# Altium footprint library PcbLib.PcbLib: 10 footprints
Each footprint in its own frame and in the unit in brackets; x right, y up, seen from the top. Pads: shape width x height; smd on the part's side, far side on the other; paste and mask are expansions set on the pad; w line width, h text height; cw(c..) or ccw(c..) is an arc to the next point about the centre after c.
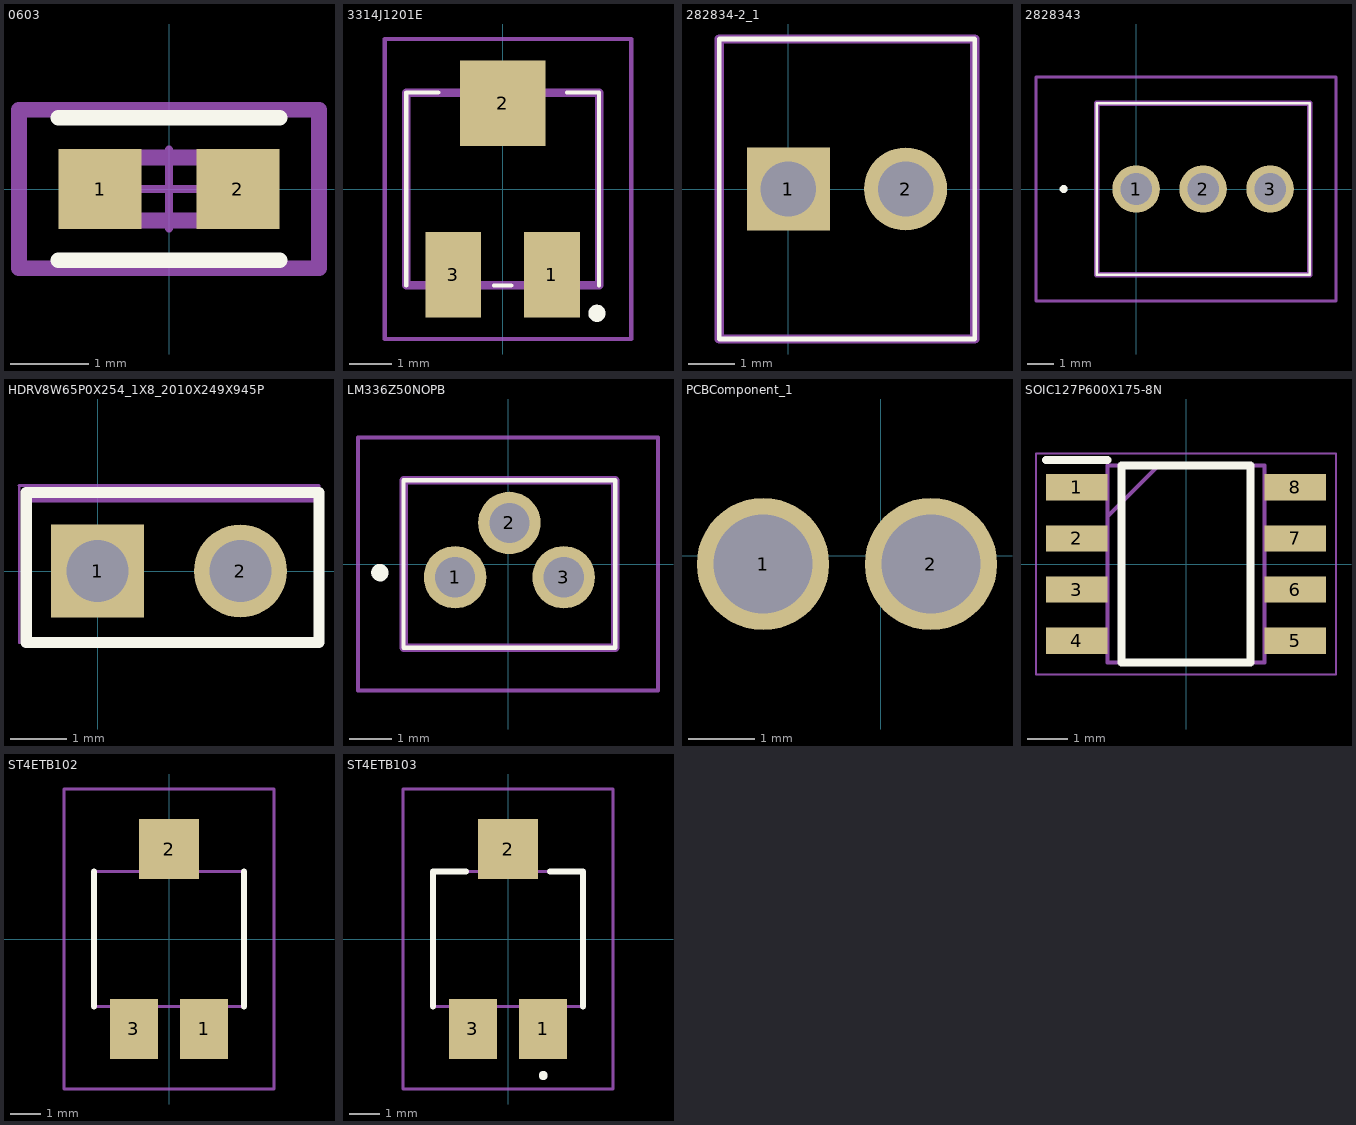
[diagram p0: the footprints below, top view; thin cyan lines are the x and y axes]

## 0603 [mm]
pads (2):
  rect 1.059x1.012 smd paste+0 mask+0: 1(-0.877,0) 2(0.877,0)
Top Overlay:
  lines w0.2: -1.406,-0.906 1.406,-0.906 ; -1.406,0.906 1.406,0.906
Mechanical 10:
  lines w0.2: -1.906,-1.006 -1.906,1.006 1.906,1.006 1.906,-1.006 -1.906,-1.006
  text ".Designator" at 0,0 h1
Mechanical 12:
  lines w0.2: -0.8,-0.4 -0.8,0.4 0.8,0.4 0.8,-0.4 -0.8,-0.4
Mechanical 15:
  lines w0.1: -0.5,0 0.5,0 ; 0,-0.5 0,0.5
  lines w0.2: -1.906,-1.006 -1.906,1.006 1.906,1.006 1.906,-1.006 -1.906,-1.006
3D body "Res_Yageo_RC0603FR-070RL_eec.STEP": height 0.25, standoff 0, extent -1.906,-1.006 1.906,1.006

## 3314J1201E [mm]
pads (3):
  rect 1.3x2 smd: 1(1.15,-2) 3(-1.15,-2)
  rect 2x2 smd: 2(0,2)
Top Overlay:
  lines w0.1: -2.25,-2.25 -2.25,2.25 -1.5,2.25 ; -0.2,-2.25 0.2,-2.25 ; 1.5,2.25 2.25,2.25 2.25,-2.25
  lines w0.2: 2.2,-3 cw(c2.2,-2.9) 2.2,-2.8 cw(c2.2,-2.9) 2.2,-3
Mechanical 13:
  lines w0.2: -2.25,-2.25 2.25,-2.25 2.25,2.25 -2.25,2.25 -2.25,-2.25
Mechanical 15:
  lines w0.1: -2.75,-3.5 3,-3.5 3,3.5 -2.75,3.5 -2.75,-3.5
3D body "3314J-1-201E.stp": height 2.65, standoff 0, extent -2.25,-2.87 2.25,2.8

## 282834-2_1 [mm]
pads (2):
  rect 1.8x1.8 hole 1.2: 1(0,0)
  round 1.8 hole 1.2: 2(2.54,0)
Top Overlay:
  lines w0.1: -1.5,-3.25 4.04,-3.25 4.04,3.25 -1.5,3.25 -1.5,-3.25
Mechanical 13:
  lines w0.2: -1.5,-3.25 4.04,-3.25 4.04,3.25 -1.5,3.25 -1.5,-3.25
3D body "282834-2.stp": height 9.87, standoff -3.53, extent -1.5,-3.25 4.04,3.25

## 2828343 [mm]
pads (3):
  round 1.8 hole 1.2: 1(0,0) 2(2.54,0) 3(5.08,0)
Top Overlay:
  lines w0.1: -1.5,-3.25 -1.5,3.25 6.58,3.25 6.58,-3.25 -1.5,-3.25
  lines w0.2: -2.8,0 ccw(c-2.75,0) -2.7,0 ; -2.8,0 cw(c-2.75,0) -2.7,0 ; -2.8,0 ccw(c-2.75,0) -2.7,0
Mechanical 13:
  lines w0.2: -1.5,-3.25 -1.5,3.25 6.58,3.25 6.58,-3.25 -1.5,-3.25
Mechanical 15:
  lines w0.1: -3.8,-4.25 -3.8,4.25 7.58,4.25 7.58,-4.25 -3.8,-4.25
3D body "282834-3.stp": height 9.89, standoff -3.51, extent -1.55,-3.25 6.53,3.25

## HDRV8W65P0X254_1X8_2010X249X945P [mm]
pads (2):
  rect 1.65x1.65 hole 1.1: 1(0,0)
  round 1.65 hole 1.1: 2(2.54,0)
Top Overlay:
  lines w0.2: -1.27,-1.27 -1.27,0 -1.27,1.397 3.937,1.397 3.937,-1.27 -1.27,-1.27
Mechanical 13:
  lines w0.1: -1.27,-1.27 -1.27,1.27 3.937,1.27 3.937,-1.27
Mechanical 15:
  lines w0.05: -1.397,1.52 3.937,1.52 3.937,-1.27 -1.27,-1.27 ; -1.393,-1.27 -1.393,-0.76 -1.393,0.76 -1.393,1.52

## LM336Z50NOPB [mm]
pads (3):
  round 1.462 hole 0.94: 1(-1.238,-0.31) 2(0.032,0.96) 3(1.302,-0.31)
Top Overlay:
  lines w0.1: -2.442,-1.96 2.508,-1.96 2.508,1.96 -2.442,1.96 -2.442,-1.96
  lines w0.2: -3,-0.31 ccw(c-3,-0.205) -3,-0.1 ccw(c-3,-0.2) -3,-0.3
Mechanical 13:
  lines w0.2: -2.442,-1.96 2.508,-1.96 2.508,1.96 -2.442,1.96 -2.442,-1.96
Mechanical 15:
  lines w0.1: -3.508,-2.96 3.508,-2.96 3.508,2.96 -3.508,2.96 -3.508,-2.96
3D body "LM336Z-5.0_NOPB.stp": height 4.1, standoff -5, extent -2.442,-1.96 2.508,1.96

## PCBComponent_1 [mm]
pads (2):
  round 2 hole 1.5 mask+0: 1(-1.778,-0.127) 2(0.762,-0.127)

## SOIC127P600X175-8N [mm]
pads (8):
  rect 1.525x0.65 smd: 1(-2.712,1.905) 2(-2.712,0.635) 3(-2.712,-0.635) 4(-2.712,-1.905) 5(2.712,-1.905) 6(2.712,-0.635) 7(2.712,0.635) 8(2.712,1.905)
Top Overlay:
  lines w0.2: -3.475,2.58 -1.95,2.58 ; -1.6,-2.45 -1.6,2.45 1.6,2.45 1.6,-2.45 -1.6,-2.45
Mechanical 13:
  lines w0.1: -1.95,1.18 -0.68,2.45 ; -1.95,-2.45 -1.95,2.45 1.95,2.45 1.95,-2.45 -1.95,-2.45
Mechanical 15:
  lines w0.05: -3.725,-2.75 -3.725,2.75 3.725,2.75 3.725,-2.75 -3.725,-2.75
3D body "AD623ARZ.stp": height 1.75, standoff 0, extent -3,-2.45 3,2.45

## ST4ETB102 [mm]
pads (3):
  rect 1.6x2 smd: 1(1.175,-3) 3(-1.175,-3)
  rect 2x2 smd: 2(0,3)
Top Overlay:
  lines w0.2: -2.5,-2.25 -2.5,2.25 ; 2.5,-2.25 2.5,2.25
Mechanical 13:
  lines w0.1: -2.5,-2.25 -2.5,2.25 2.5,2.25 2.5,-2.25 -2.5,-2.25
Mechanical 15:
  lines w0.1: -3.5,-5 -3.5,5 3.5,5 3.5,-5 -3.5,-5
3D body "ST-4ETB102.stp": height 2.55, standoff 0, extent -2.5,-3.84 2.5,3.8

## ST4ETB103 [mm]
pads (3):
  rect 1.6x2 smd: 1(1.175,-3) 3(-1.175,-3)
  rect 2x2 smd: 2(0,3)
Top Overlay:
  lines w0.2: -2.5,-2.25 -2.5,2.25 -1.4,2.25 ; 1.4,2.25 2.5,2.25 2.5,-2.25 ; 1.175,-4.6 ccw(c1.175,-4.55) 1.175,-4.5 ; 1.175,-4.6 cw(c1.175,-4.55) 1.175,-4.5 ; 1.175,-4.6 1.175,-4.5
Mechanical 13:
  lines w0.1: -2.5,-2.25 2.5,-2.25 2.5,2.25 -2.5,2.25 -2.5,-2.25
Mechanical 15:
  lines w0.1: -3.5,-5 3.5,-5 3.5,5 -3.5,5 -3.5,-5
3D body "ST-4ETB103.stp": height 2.7, standoff 0, extent -2.5,-3.84 2.5,3.8